# Altium footprint library WIRE_WOUND.PcbLib: 6 footprints
Each footprint in its own frame and in the unit in brackets; x right, y up, seen from the top. Pads: shape width x height; smd on the part's side, far side on the other; paste and mask are expansions set on the pad; w line width, h text height; cw(c..) or ccw(c..) is an arc to the next point about the centre after c.
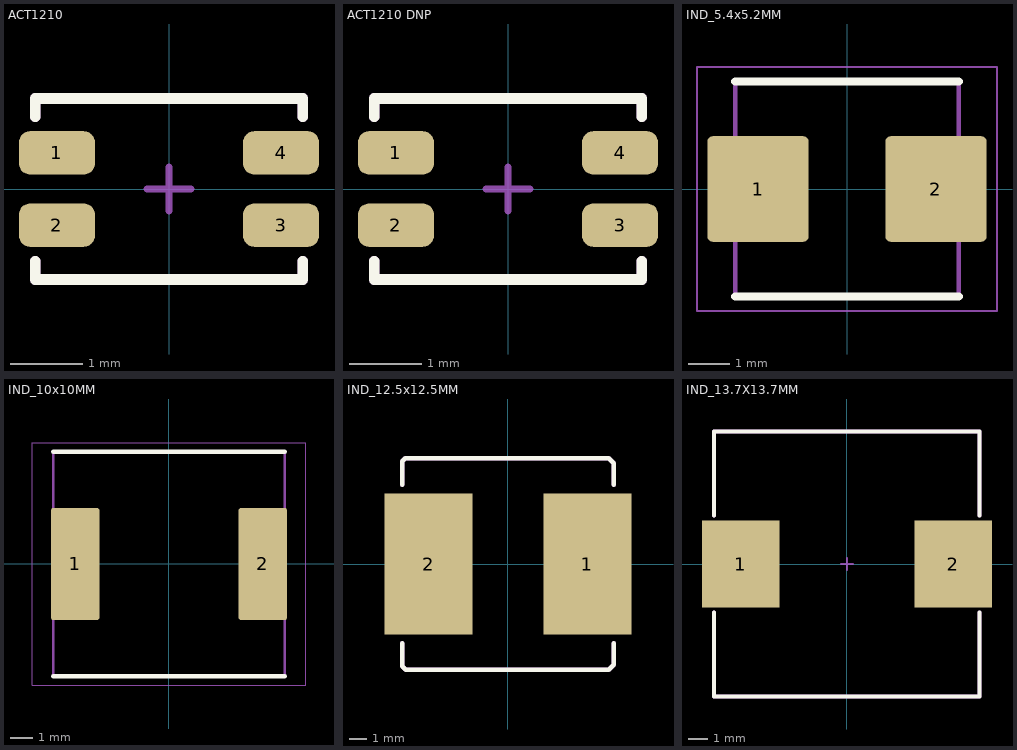
[diagram p0: the footprints below, top view; thin cyan lines are the x and y axes]

## ACT1210 [mm] "ACT1210-510-2P-TL00"
height 2.5
pads (4):
  rrect50% 1.05x0.6 smd mask+0.05: 1(-1.55,0.5) 2(-1.55,-0.5) 3(1.55,-0.5) 4(1.55,0.5)
Top Overlay:
  lines w0.15: -1.85,-1 -1.85,-1.25 1.85,-1.25 1.85,-1 ; -1.85,1 -1.85,1.25 1.85,1.25 1.85,1
Mechanical 15:
  lines w0.1: -0.3,0 0.3,0 ; 0,-0.3 0,0.3
Mechanical 29:
  lines w0.15: -1.85,-1 -1.85,-1.25 1.85,-1.25 1.85,-1 ; -1.85,1 -1.85,1.25 1.85,1.25 1.85,1
  text "'.Designator'" at -1.534,-0.143 h0.64
3D body "act1210.step": height 2.36, standoff 0.01, extent -1.85,-1.25 1.85,1.25

## ACT1210 DNP [mm] "DNP"
height 2.5
pads (4):
  rrect50% 1.05x0.6 smd mask+0.05: 1(-1.55,0.5) 2(-1.55,-0.5) 3(1.55,-0.5) 4(1.55,0.5)
Top Overlay:
  lines w0.15: -1.85,-1 -1.85,-1.25 1.85,-1.25 1.85,-1 ; -1.85,1 -1.85,1.25 1.85,1.25 1.85,1
Mechanical 15:
  lines w0.1: -0.3,0 0.3,0 ; 0,-0.3 0,0.3
Mechanical 29:
  lines w0.15: -1.85,-1 -1.85,-1.25 1.85,-1.25 1.85,-1 ; -1.85,1 -1.85,1.25 1.85,1.25 1.85,1

## IND_5.4x5.2MM [mm]
pads (2):
  rrect10% 2.45x2.55 smd: 1(-2.15,0) 2(2.15,0)
Top Overlay:
  lines w0.2: -2.7,-2.6 2.7,-2.6 ; -2.7,2.6 2.7,2.6
Mechanical 15:
  lines w0.05: -3.625,-2.95 -3.625,2.95 3.625,2.95 3.625,-2.95 -3.625,-2.95
Mechanical 29:
  lines w0.1: -2.7,-2.6 -2.7,2.6 2.7,2.6 2.7,-2.6 -2.7,-2.6
  text "'.Designator'" at -1.84,-0.172 h0.76
3D body "0530CDMCCDS-3R3MC.stp": height 3, standoff 0, extent -2.7,-2.6 2.7,2.6

## IND_10x10MM [mm]
pads (2):
  rrect10% 2.15x5 smd: 1(-4.175,0) 2(4.175,0)
Top Overlay:
  lines w0.2: -5.15,-5 5.15,-5 ; -5.15,5 5.15,5
Mechanical 13:
  lines w0.1: -5.15,-5 5.15,-5 5.15,5 -5.15,5 -5.15,-5
Mechanical 15:
  lines w0.05: -6.075,-5.4 6.075,-5.4 6.075,5.4 -6.075,5.4 -6.075,-5.4
Mechanical 29:
  text "'.Designator'" at -2.457,-0.23 h1.02
3D body "1274AS-H-100M=P3.STEP": height 5.01, standoff 0.01, extent -5,-5 5,5

## IND_12.5x12.5MM [mm]
height 5
pads (2):
  rect 5x8 smd: 1(4.508,0) 2(-4.5,0)
Top Overlay:
  lines w0.254: -6,-4.48 -6,-5.792 -5.792,-6 5.712,-6 6,-5.712 6,-4.48 ; -6,4.48 -6,5.824 -5.824,6 5.712,6 6,5.712 6,4.48
Mechanical 29:
  lines w0.254: -6,-4.48 -6,-5.792 -5.792,-6 5.712,-6 6,-5.712 6,-4.48 ; -6,4.48 -6,5.824 -5.824,6 5.712,6 6,5.712 6,4.48
  text "'.Designator'" at -4.216,-0.22 h1.02
3D body "pm127sh-330m-rc.stp": height 7.51, standoff 0.01, extent -6.25,-6.25 6.25,6.25

## IND_13.7X13.7MM [mm]
pads (2):
  rect 4x4.5 smd mask+0.05: 1(-5.5,0) 2(5.5,0)
Top Overlay:
  lines w0.2: -6.875,-2.5 -6.875,-6.85 6.85,-6.85 6.85,-2.5 ; -6.875,2.5 -6.875,6.85 6.85,6.85 6.85,2.5
Mechanical 15:
  lines w0.1: -0.3,0 0.3,0 ; 0,-0.3 0,0.3
Mechanical 29:
  lines w0.2: -6.875,-2.5 -6.875,-6.85 6.85,-6.85 6.85,-2.5 ; -6.875,2.5 -6.875,6.85 6.85,6.85 6.85,2.5
  text "'.Designator'" at -3.068,-0.287 h1.27
3D body "srp1270.stp": height 7.01, standoff 0.01, extent -6.85,-6.85 6.85,6.85